# Altium footprint library PcbLib1.PcbLib: 3 footprints
Each footprint in its own frame and in the unit in brackets; x right, y up, seen from the top. Pads: shape width x height; smd on the part's side, far side on the other; paste and mask are expansions set on the pad; w line width, h text height; cw(c..) or ccw(c..) is an arc to the next point about the centre after c.
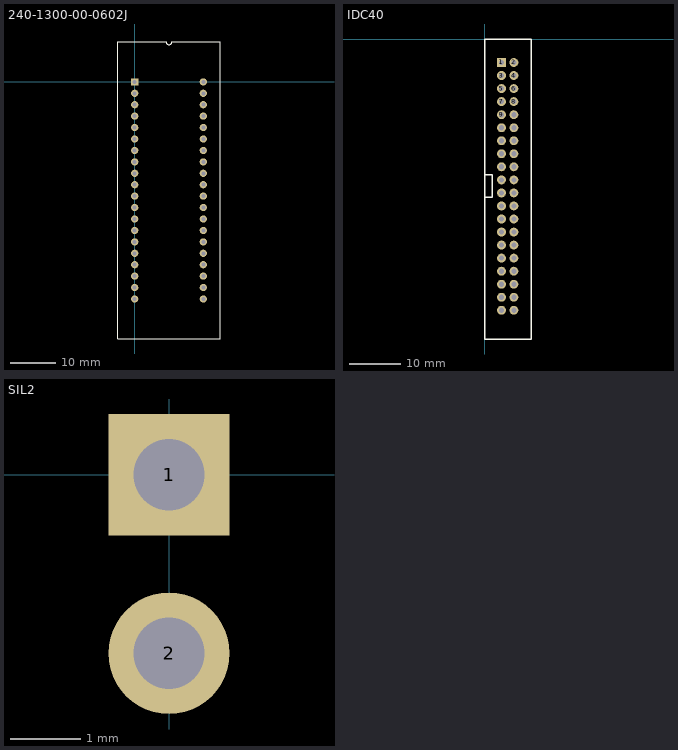
[diagram p0: the footprints below, top view; thin cyan lines are the x and y axes]

## 240-1300-00-0602J [mil]
pads (40):
  rect 63x63 hole 35: 1(0,0)
  round 63 hole 35: 2(0,-100) 3(0,-200) 4(0,-300) 5(0,-400) 6(0,-500) 7(0,-600) 8(0,-700) 9(0,-800) 10(0,-900) 11(0,-1000) 12(0,-1100) 13(0,-1200) 14(0,-1300) 15(0,-1400) 16(0,-1500) 17(0,-1600) 18(0,-1700) 19(0,-1800) 20(0,-1900) 21(600,-1900) 22(600,-1800) 23(600,-1700) 24(600,-1600) 25(600,-1500) 26(600,-1400) 27(600,-1300) 28(600,-1200) 29(600,-1100) 30(600,-1000) 31(600,-900) 32(600,-800) 33(600,-700) 34(600,-600) 35(600,-500) 36(600,-400) 37(600,-300) 38(600,-200) 39(600,-100) 40(600,0)
Top Overlay:
  lines w10: -150,-2250 -150,350 275,350 ccw(c300,350) 325,350 750,350 750,-2250 -150,-2250

## IDC40 [mil]
pads (40):
  rect 68x68 hole 40: 1(130,-180)
  round 68 hole 40: 2(225,-180) 3(130,-280) 4(225,-280) 5(130,-380) 6(225,-380) 7(130,-480) 8(225,-480) 9(130,-580) 10(225,-580) 11(130,-680) 12(225,-680) 13(130,-780) 14(225,-780) 15(130,-880) 16(225,-880) 17(130,-980) 18(225,-980) 19(130,-1080) 20(225,-1080) 21(130,-1180) 22(225,-1180) 23(130,-1280) 24(225,-1280) 25(130,-1380) 26(225,-1380) 27(130,-1480) 28(225,-1480) 29(130,-1580) 30(225,-1580) 31(130,-1680) 32(225,-1680) 33(130,-1780) 34(225,-1780) 35(130,-1880) 36(225,-1880) 37(130,-1980) 38(225,-1980) 39(130,-2080) 40(225,-2080)
Top Overlay:
  lines w10: 0,-1215 60,-1215 60,-1040 0,-1040 ; 0,-2300 0,0 360,0 360,-2300 0,-2300

## SIL2 [mil]
pads (2):
  rect 68x68 hole 40: 1(0,0)
  round 68 hole 40: 2(0,-100)